# Altium integrated library NSC Video Generator Circuit.IntLib: 4 symbols
Pins are listed as number, name and electrical type; pins without a type are passive.

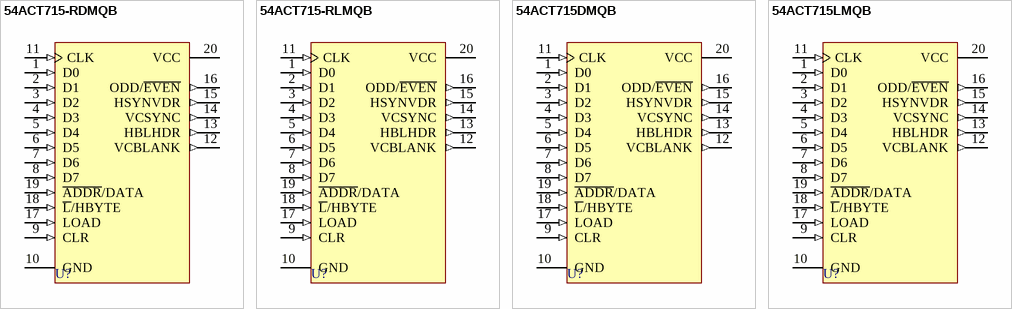
[diagram p0: symbols 54ACT715-RDMQB to 54ACT715LMQB]

## 54ACT715-RDMQB
designator U?
Programmable Video Sync Generator; Published: 15-Apr-2002; LatestRevisionDate: 06-Jun-2005; LatestRevisionNote: Stylized 3D Model Added.; DatasheetVersion: Dec-1998; PackageVersion: 2000; PackageReference: J20A; Publisher: Altium Limited; PackageDescription: DIP; 20 Leads; Row Spacing 7.62 mm; Pitch 2.54 mm; Code_JEDEC: MS-015-AE; ComponentLink1Description: Manufacturer Link; ComponentLink1URL: http://www.national.com/; ComponentLink2Description: Datasheet; ComponentLink2URL: http://www.national.com/ds.cgi/54/54ACT715.pdf; ComponentLink3Description: URL Link1; ComponentLink3URL: http://www.national.com/pf/54/54ACT715.html
footprint J20A (DIP; 20 Leads; Row Spacing 7.62 mm; Pitch 2.54 mm)
3D model J20A (DIP; 20 Leads; Row Spacing 7.62 mm; Pitch 2.54 mm)
signal-integrity model 54ACT715-RDMQB
pins: 1 D0 (in), 2 D1 (in), 3 D2 (in), 4 D3 (in), 5 D4 (in), 6 D5 (in), 7 D6 (in), 8 D7 (in), 9 CLR (in), 10 GND (power), 11 CLK (in), 12 VCBLANK (out), 13 HBLHDR (out), 14 VCSYNC (out), 15 HSYNVDR (out), 16 ODD/~{EVEN} (out), 17 LOAD (in), 18 ~{L}/HBYTE (in), 19 ~{ADDR}/DATA (in), 20 VCC (power)

## 54ACT715-RLMQB
designator U?
Programmable Video Sync Generator; Published: 15-Apr-2002; DatasheetVersion: Dec-1998; PackageVersion: 2000; PackageReference: E20A; Publisher: Altium Limited; PackageDescription: Leadless Chip Carrier; 20 Terminals; Body 8.9 x 8.9 mm; ComponentLink1Description: Manufacturer Link; ComponentLink1URL: http://www.national.com/; ComponentLink2Description: Datasheet; ComponentLink2URL: http://www.national.com/ds.cgi/54/54ACT715.pdf; ComponentLink3Description: URL Link1; ComponentLink3URL: http://www.national.com/pf/54/54ACT715.html
footprint E20A (Leadless Chip Carrier; 20 Terminals; Body 8.9 x 8.9 mm)
signal-integrity model 54ACT715-RLMQB
pins: 1 D0 (in), 2 D1 (in), 3 D2 (in), 4 D3 (in), 5 D4 (in), 6 D5 (in), 7 D6 (in), 8 D7 (in), 9 CLR (in), 10 GND (power), 11 CLK (in), 12 VCBLANK (out), 13 HBLHDR (out), 14 VCSYNC (out), 15 HSYNVDR (out), 16 ODD/~{EVEN} (out), 17 LOAD (in), 18 ~{L}/HBYTE (in), 19 ~{ADDR}/DATA (in), 20 VCC (power)

## 54ACT715DMQB
designator U?
Programmable Video Sync Generator; Published: 15-Apr-2002; LatestRevisionDate: 06-Jun-2005; LatestRevisionNote: Stylized 3D Model Added.; DatasheetVersion: Dec-1998; PackageVersion: 2000; PackageReference: J20A; Publisher: Altium Limited; PackageDescription: DIP; 20 Leads; Row Spacing 7.62 mm; Pitch 2.54 mm; Code_JEDEC: MS-015-AE; ComponentLink1Description: Manufacturer Link; ComponentLink1URL: http://www.national.com/; ComponentLink2Description: Datasheet; ComponentLink2URL: http://www.national.com/ds.cgi/54/54ACT715.pdf; ComponentLink3Description: URL Link1; ComponentLink3URL: http://www.national.com/pf/54/54ACT715.html
footprint J20A (DIP; 20 Leads; Row Spacing 7.62 mm; Pitch 2.54 mm)
3D model J20A (DIP; 20 Leads; Row Spacing 7.62 mm; Pitch 2.54 mm)
signal-integrity model 54ACT715DMQB
pins: 1 D0 (in), 2 D1 (in), 3 D2 (in), 4 D3 (in), 5 D4 (in), 6 D5 (in), 7 D6 (in), 8 D7 (in), 9 CLR (in), 10 GND (power), 11 CLK (in), 12 VCBLANK (out), 13 HBLHDR (out), 14 VCSYNC (out), 15 HSYNVDR (out), 16 ODD/~{EVEN} (out), 17 LOAD (in), 18 ~{L}/HBYTE (in), 19 ~{ADDR}/DATA (in), 20 VCC (power)

## 54ACT715LMQB
designator U?
Programmable Video Sync Generator; ComponentAvailability: Obsolete; Published: 15-Apr-2002; DatasheetVersion: Dec-1998; PackageVersion: 2000; PackageReference: E20A; Publisher: Altium Limited; PackageDescription: Leadless Chip Carrier; 20 Terminals; Body 8.9 x 8.9 mm; ComponentLink1Description: Manufacturer Link; ComponentLink1URL: http://www.national.com/; ComponentLink2Description: Discontinuation Notice; ComponentLink2URL: http://www.national.com/obs/obsolescence.txt; ComponentLink3Description: URL Link1; ComponentLink3URL: http://www.national.com/pf/54/54ACT715.html
footprint E20A (Leadless Chip Carrier; 20 Terminals; Body 8.9 x 8.9 mm)
signal-integrity model 54ACT715LMQB
pins: 1 D0 (in), 2 D1 (in), 3 D2 (in), 4 D3 (in), 5 D4 (in), 6 D5 (in), 7 D6 (in), 8 D7 (in), 9 CLR (in), 10 GND (power), 11 CLK (in), 12 VCBLANK (out), 13 HBLHDR (out), 14 VCSYNC (out), 15 HSYNVDR (out), 16 ODD/~{EVEN} (out), 17 LOAD (in), 18 ~{L}/HBYTE (in), 19 ~{ADDR}/DATA (in), 20 VCC (power)